# EAGLE library part ADS7806P (library burr-brown)
12-Bit 100 kSPS ADC
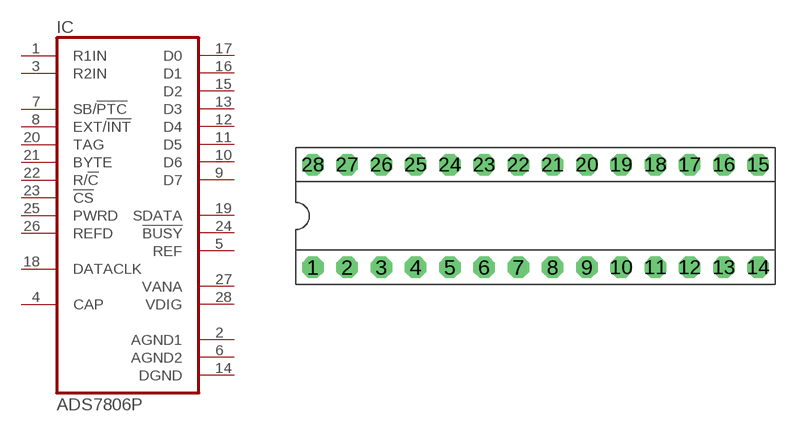
[diagram p45: symbol with the pads of DIP-28/3; footprint DIP-28/3]

Designator prefix IC

## ADS7806P  [DIP-28/3]
1  R1IN  in
2  AGND1  pwr
3  R2IN  in
4  CAP  pas
5  REF  out
6  AGND2  pwr
7  SB/!PTC  in
8  EXT/!INT  in
9  D7  out
10  D6  out
11  D5  out
12  D4  out
13  D3  out
14  DGND  pwr
15  D2  out
16  D1  out
17  D0  out
18  DATACLK
19  SDATA  out
20  TAG  in
21  BYTE  in
22  R/!C  in
23  !CS  in
24  !BUSY  out
25  PWRD  in
26  REFD  in
27  VANA  pwr
28  VDIG  pwr

## Footprint DIP-28/3 (pad centres in mm)
drill 0.813 pad 1.6 octagon: 1 -16.51,-3.81; 2 -13.97,-3.81; 3 -11.43,-3.81; 4 -8.89,-3.81; 5 -6.35,-3.81; 6 -3.81,-3.81; 7 -1.27,-3.81; 8 1.27,-3.81; 9 3.81,-3.81; 10 6.35,-3.81; 11 8.89,-3.81; 12 11.43,-3.81; 13 13.97,-3.81; 14 16.51,-3.81; 15 16.51,3.81; 16 13.97,3.81; 17 11.43,3.81; 18 8.89,3.81; 19 6.35,3.81; 20 3.81,3.81; 21 1.27,3.81; 22 -1.27,3.81; 23 -3.81,3.81; 24 -6.35,3.81; 25 -8.89,3.81; 26 -11.43,3.81; 27 -13.97,3.81; 28 -16.51,3.81